# Altium footprint library SAMTEC-FTSH-105-01-X-D.PcbLib: 1 footprints
Each footprint in its own frame and in the unit in brackets; x right, y up, seen from the top. Pads: shape width x height; smd on the part's side, far side on the other; paste and mask are expansions set on the pad; w line width, h text height; cw(c..) or ccw(c..) is an arc to the next point about the centre after c.
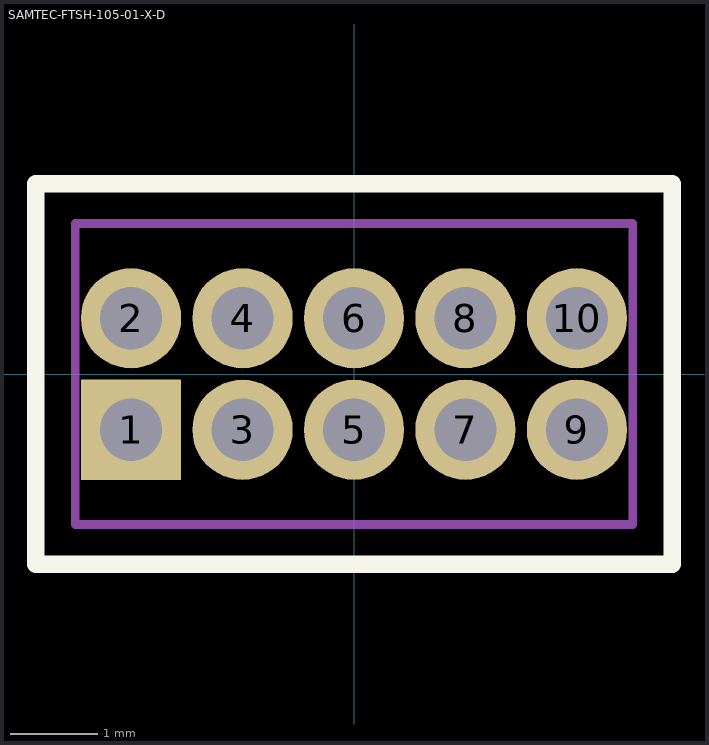
[diagram p0: the footprint, top view; thin cyan lines are the x and y axes]

## SAMTEC-FTSH-105-01-X-D [mil]
pads (10):
  rect 45x45 hole 27.95: 1(-100,-25)
  round 45 hole 27.95: 2(-100,25) 3(-50,-25) 4(-50,25) 5(0,-25) 6(0,25) 7(50,-25) 8(50,25) 9(100,-25) 10(100,25)
Top Overlay:
  lines w7.87: -142.72,-85.24 142.72,-85.24 142.72,85.24 -142.72,85.24 -142.72,-85.24
Top Solder:
  circle w0: c100,25 r24.51
  circle w0: c100,-25 r24.51
  circle w0: c50,25 r24.51
  circle w0: c50,-25 r24.51
  circle w0: c0,25 r24.51
  circle w0: c0,-25 r24.51
  circle w0: c-50,25 r24.51
  circle w0: c-50,-25 r24.51
  circle w0: c-100,25 r24.51
  circle w0: c-100,-25 r24.51
Bottom Solder:
  circle w0: c100,25 r24.51
  circle w0: c100,-25 r24.51
  circle w0: c50,25 r24.51
  circle w0: c50,-25 r24.51
  circle w0: c0,25 r24.51
  circle w0: c0,-25 r24.51
  circle w0: c-50,25 r24.51
  circle w0: c-50,-25 r24.51
  circle w0: c-100,25 r24.51
  circle w0: c-100,-25 r24.51
Mechanical 4:
  drawing of 184 lines, arcs and shapes, not listed